# EAGLE library part ACS712 (library allegro)
Allegro ACS712 Fully Integrated, Hall Effect-Based Linear Current Sensor IC with 2.1 kVRMS Isolation and a Low-Resistance Current Conductor 8-pin SOIC package **Current sensor** Datasheet and Description <http://www.allegromicro.com/en/Products/Current-Sensor-ICs/Zero-To-Fifty-Amp-Integrated-Conductor-Sensor-ICs/ACS712.aspx> Created by Ben Hurwitz Robotics @ Maryland May 10, 2016
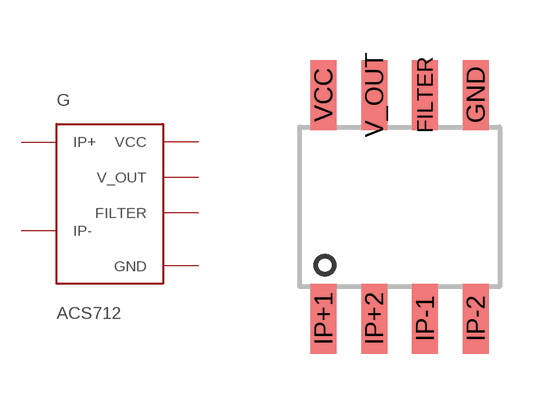
[diagram p0: symbol with the pads of ACS712-SOIC; footprint ACS712-SOIC]

Designator prefix G

## ACS712LC-SOIC  [ACS712-SOIC]
FILTER  FILTER
GND  GND
IP+1  IP+
IP+2  IP+
IP-1  IP-
IP-2  IP-
V_OUT  V_OUT
VCC  VCC

## Footprint ACS712-SOIC (pad centres in mm)
smd 0.65 x 1.75: FILTER 0.635,2.8; GND 1.905,2.8; IP+1 -1.905,-2.8; IP+2 -0.635,-2.8; IP-1 0.635,-2.8; IP-2 1.905,-2.8; V_OUT -0.635,2.8; VCC -1.905,2.8